# Altium footprint library WE-MAIA.PcbLib: 13 footprints
Each footprint in its own frame and in the unit in brackets; x right, y up, seen from the top. Pads: shape width x height; smd on the part's side, far side on the other; paste and mask are expansions set on the pad; w line width, h text height; cw(c..) or ccw(c..) is an arc to the next point about the centre after c.
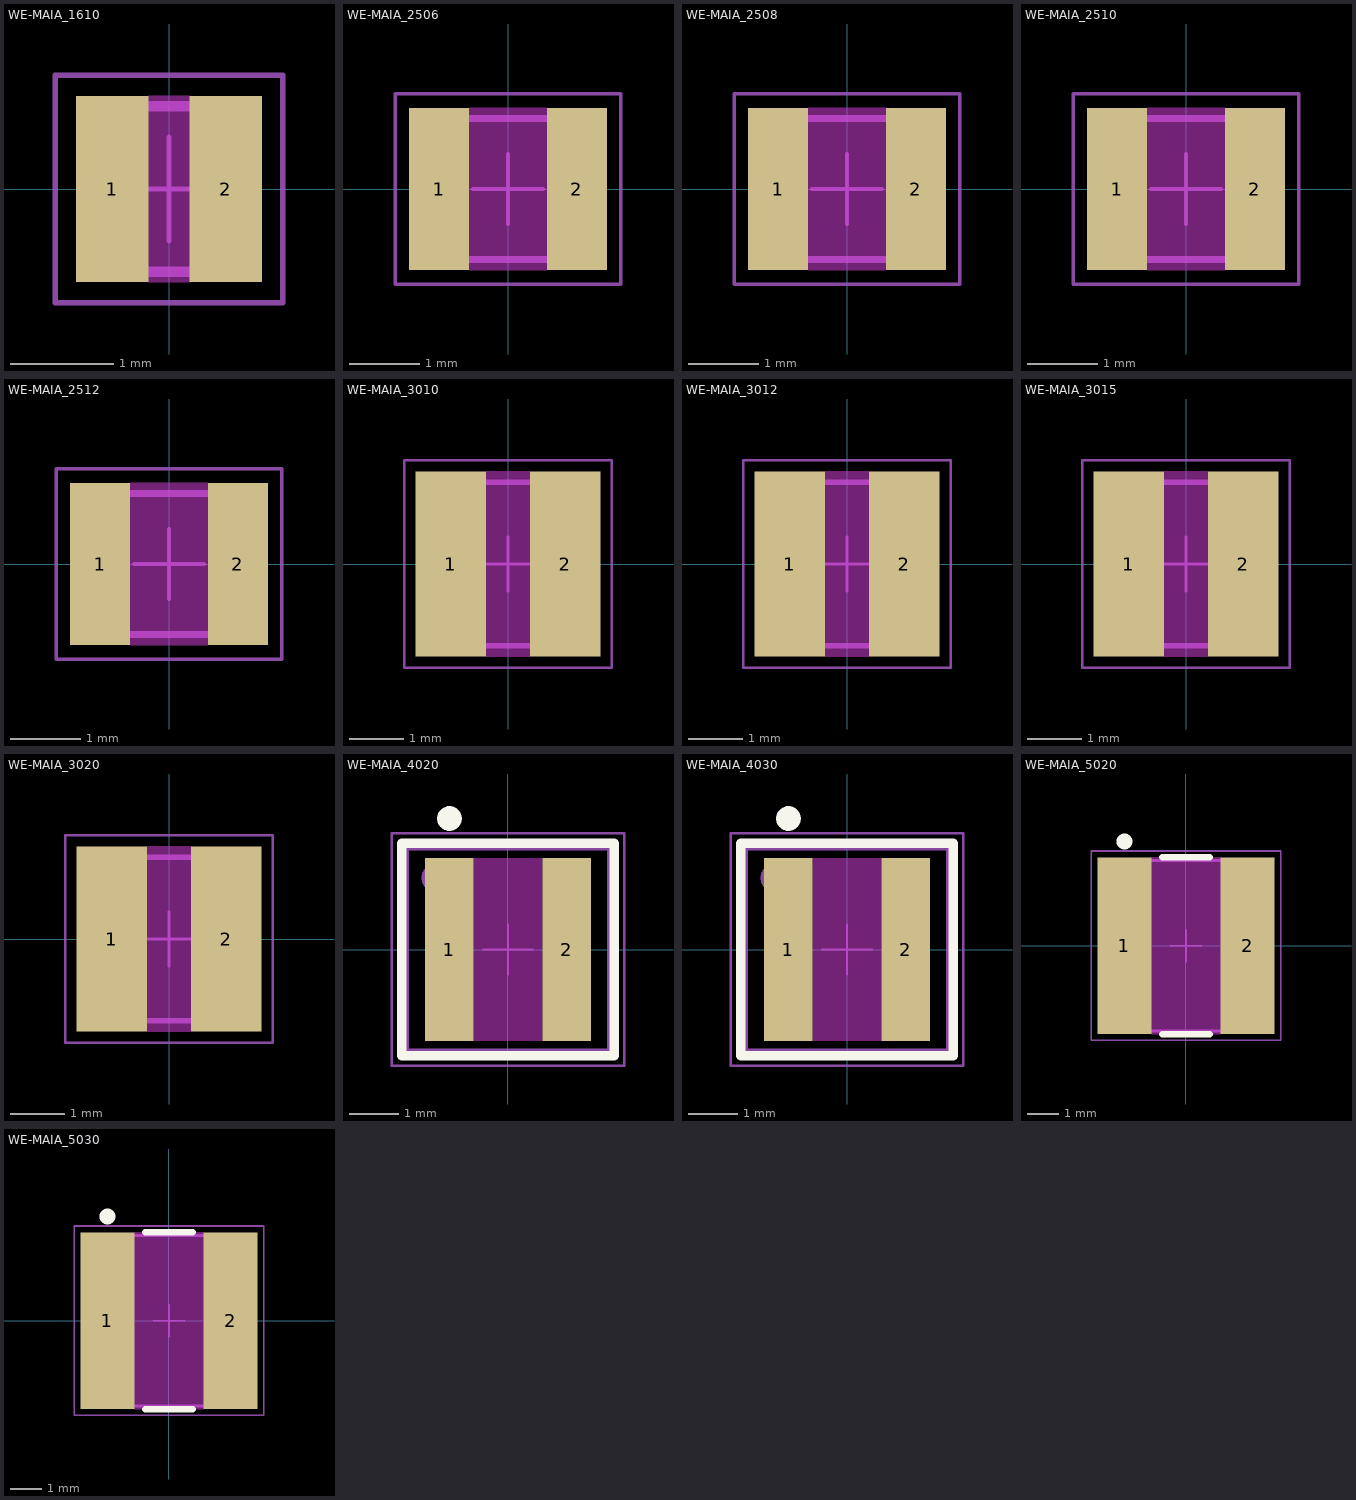
[diagram p0: the footprints below, top view; thin cyan lines are the x and y axes]

## WE-MAIA_1610 [mm] "SMT Power Inductor, 2-leads, body 1.6x1.6mm"
height 1
pads (2):
  rect 0.7x1.8 smd: 1(-0.55,0) 2(0.55,0)
Top Layer keep-out:
  region: -0.2,0.9 0.2,0.9 0.2,-0.9 -0.2,-0.9
Top Designator:
  text ".Designator" at -2.499,-0.167 h0.5
Top Component Outline:
  lines w0.1: -0.8,-0.8 -0.8,0.8 0.8,0.8 0.8,-0.8 -0.8,-0.8
Top Courtyard:
  lines w0.05: -1.1,-1.1 -1.1,1.1 1.1,1.1 1.1,-1.1 -1.1,-1.1
Top Component Center:
  lines w0.05: -0.5,0 0.5,0 ; 0,-0.5 0,0.5
3D body "WE-IndMAIA_1610.stp": height 1, standoff 0, extent -0.8,-0.8 0.8,0.8

## WE-MAIA_2506 [mm] "SMD Power Inductor, 2-leads, body 2.5x2mm"
height 0.6
pads (2):
  rect 0.85x2.3 smd: 1(-0.975,0) 2(0.975,0)
Top Layer keep-out:
  region: -0.55,1.15 0.55,1.15 0.55,-1.15 -0.55,-1.15
Top Designator:
  text ".Designator" at -3.499,-0.233 h0.7
Top Component Outline:
  lines w0.1: -1.25,-1 1.25,-1 1.25,1 -1.25,1 -1.25,-1
Top Courtyard:
  lines w0.05: -1.6,-1.35 -1.6,1.35 1.6,1.35 1.6,-1.35 -1.6,-1.35
Top Component Center:
  lines w0.05: -0.5,0 0.5,0 ; 0,-0.5 0,0.5
3D body "WE-IndMAIA_SSMC-252006-S.stp": height 0.6, standoff 0, extent -1.25,-1 1.25,1

## WE-MAIA_2508 [mm] "SMD Power Inductor, 2-leads, body 2.5x2mm"
height 0.8
pads (2):
  rect 0.85x2.3 smd: 1(-0.975,0) 2(0.975,0)
Top Layer keep-out:
  region: -0.55,1.15 0.55,1.15 0.55,-1.15 -0.55,-1.15
Top Designator:
  text ".Designator" at -3.499,-0.233 h0.7
Top Component Outline:
  lines w0.1: -1.25,-1 1.25,-1 1.25,1 -1.25,1 -1.25,-1
Top Courtyard:
  lines w0.05: -1.6,-1.35 -1.6,1.35 1.6,1.35 1.6,-1.35 -1.6,-1.35
Top Component Center:
  lines w0.05: -0.5,0 0.5,0 ; 0,-0.5 0,0.5
3D body "WE-IndMAIA_SSMC-252008-S.stp": height 0.8, standoff 0, extent -1.25,-1 1.25,1

## WE-MAIA_2510 [mm] "SMD Power Inductor, 2-leads, body 2.5x2mm"
height 1
pads (2):
  rect 0.85x2.3 smd: 1(-0.975,0) 2(0.975,0)
Top Layer keep-out:
  region: -0.55,1.15 0.55,1.15 0.55,-1.15 -0.55,-1.15
Top Designator:
  text ".Designator" at -3.499,-0.233 h0.7
Top Component Outline:
  lines w0.1: -1.25,-1 1.25,-1 1.25,1 -1.25,1 -1.25,-1
Top Courtyard:
  lines w0.05: -1.6,-1.35 -1.6,1.35 1.6,1.35 1.6,-1.35 -1.6,-1.35
Top Component Center:
  lines w0.05: -0.5,0 0.5,0 ; 0,-0.5 0,0.5
3D body "WE-IndMAIA_SSMC-252010-S.stp": height 1, standoff 0, extent -1.25,-1 1.25,1

## WE-MAIA_2512 [mm] "SMD Power Inductor, 2-leads, body 2.5x2mm"
height 1.2
pads (2):
  rect 0.85x2.3 smd: 1(-0.975,0) 2(0.975,0)
Top Layer keep-out:
  region: -0.55,1.15 0.55,1.15 0.55,-1.15 -0.55,-1.15
Top Designator:
  text ".Designator" at -3.499,-0.233 h0.7
Top Component Outline:
  lines w0.1: -1.25,-1 -1.25,1 1.25,1 1.25,-1 -1.25,-1
Top Courtyard:
  lines w0.05: -1.6,-1.35 1.6,-1.35 1.6,1.35 -1.6,1.35 -1.6,-1.35
Top Component Center:
  lines w0.05: -0.5,0 0.5,0 ; 0,-0.5 0,0.5
3D body "WE-IndMAIA_SSMC-252012-S.stp": height 1.2, standoff 0, extent -1.25,-1 1.25,1

## WE-MAIA_3010 [mm] "SMD Power Inductor, 2-leads, body 3x3mm"
height 1
pads (2):
  rect 1.3x3.4 smd: 1(-1.05,0) 2(1.05,0)
Top Layer keep-out:
  region: -0.4,1.7 0.4,1.7 0.4,-1.7 -0.4,-1.7
Top Designator:
  text ".Designator" at -4.998,-0.333 h1
Top Component Outline:
  lines w0.1: -1.5,-1.5 -1.5,1.5 1.5,1.5 1.5,-1.5 -1.5,-1.5
Top Courtyard:
  lines w0.05: -1.9,-1.9 -1.9,1.9 1.9,1.9 1.9,-1.9 -1.9,-1.9
Top Component Center:
  lines w0.05: -0.5,0 0.5,0 ; 0,-0.5 0,0.5
3D body "WE-IndMAIA_SSMC-303010-S.stp": height 1, standoff 0, extent -1.5,-1.5 1.5,1.5

## WE-MAIA_3012 [mm] "SMD Power Inductor, 2-leads, body 3x3mm"
height 1.2
pads (2):
  rect 1.3x3.4 smd: 1(-1.05,0) 2(1.05,0)
Top Layer keep-out:
  region: -0.4,1.7 0.4,1.7 0.4,-1.7 -0.4,-1.7
Top Designator:
  text ".Designator" at -4.998,-0.333 h1
Top Component Outline:
  lines w0.1: -1.5,-1.5 -1.5,1.5 1.5,1.5 1.5,-1.5 -1.5,-1.5
Top Courtyard:
  lines w0.05: -1.9,-1.9 -1.9,1.9 1.9,1.9 1.9,-1.9 -1.9,-1.9
Top Component Center:
  lines w0.05: -0.5,0 0.5,0 ; 0,-0.5 0,0.5
3D body "WE-IndMAIA_SSMC-303012-S.stp": height 1.2, standoff 0, extent -1.5,-1.5 1.5,1.5

## WE-MAIA_3015 [mm] "SMD Power Inductor, 2-leads, body 3x3mm"
height 1.5
pads (2):
  rect 1.3x3.4 smd: 1(-1.05,0) 2(1.05,0)
Top Layer keep-out:
  region: -0.4,1.7 0.4,1.7 0.4,-1.7 -0.4,-1.7
Top Designator:
  text ".Designator" at -4.998,-0.333 h1
Top Component Outline:
  lines w0.1: -1.5,-1.5 -1.5,1.5 1.5,1.5 1.5,-1.5 -1.5,-1.5
Top Courtyard:
  lines w0.05: -1.9,-1.9 1.9,-1.9 1.9,1.9 -1.9,1.9 -1.9,-1.9
Top Component Center:
  lines w0.05: -0.5,0 0.5,0 ; 0,-0.5 0,0.5
3D body "WE-MAIA_3015.stp": height 1.5, standoff 0, extent -1.5,-1.5 1.5,1.5

## WE-MAIA_3020 [mm] "SMD Power Inductor, 2-leads, body 3x3mm"
height 2
pads (2):
  rect 1.3x3.4 smd: 1(-1.05,0) 2(1.05,0)
Top Layer keep-out:
  region: -0.4,1.7 0.4,1.7 0.4,-1.7 -0.4,-1.7
Top Designator:
  text ".Designator" at -4.998,-0.333 h1
Top Component Outline:
  lines w0.1: -1.5,-1.5 -1.5,1.5 1.5,1.5 1.5,-1.5 -1.5,-1.5
Top Courtyard:
  lines w0.05: -1.9,-1.9 -1.9,1.9 1.9,1.9 1.9,-1.9 -1.9,-1.9
Top Component Center:
  lines w0.05: -0.5,0 0.5,0 ; 0,-0.5 0,0.5
3D body "WE-IndMAIA_SSMC-303020-S.stp": height 2, standoff 0, extent -1.5,-1.5 1.5,1.5

## WE-MAIA_4020 [mm] "SMD Power Inductor, 2-leads, body 4.1x4.1mm"
height 2.1
pads (2):
  rect 0.98x3.7 smd: 1(-1.185,0) 2(1.185,0)
Top Layer keep-out:
  region: -0.695,1.85 0.695,1.85 0.695,-1.85 -0.695,-1.85
Top Overlay:
  circle w0.25: c-1.185,2.65 r0.125
  lines w0.2: -2.15,-2.15 -2.15,2.15 2.15,2.15 2.15,-2.15 -2.15,-2.15
Top Designator:
  text ".Designator" at -4.998,-0.333 h1
Top Component Outline:
  circle w0.1: c-1.45,1.45 r0.25
  lines w0.1: -2.05,-2.05 -2.05,2.05 2.05,2.05 2.05,-2.05 -2.05,-2.05
Top Courtyard:
  lines w0.05: -2.35,-2.35 -2.35,2.35 2.35,2.35 2.35,-2.35 -2.35,-2.35
Top Component Center:
  lines w0.05: -0.5,0 0.5,0 ; 0,-0.5 0,0.5
3D body "WE-IndMAIA_SSMC-403020-S.stp": height 2.1, standoff 0, extent -2.05,-2.05 2.05,2.05

## WE-MAIA_4030 [mm] "SMD Power Inductor, 2-leads, body 4.1x4.1mm"
height 3.1
pads (2):
  rect 0.98x3.7 smd: 1(-1.185,0) 2(1.185,0)
Top Layer keep-out:
  region: -0.695,1.85 0.695,1.85 0.695,-1.85 -0.695,-1.85
Top Overlay:
  circle w0.25: c-1.185,2.65 r0.125
  lines w0.2: -2.15,-2.15 -2.15,2.15 2.15,2.15 2.15,-2.15 -2.15,-2.15
Top Designator:
  text ".Designator" at -4.998,-0.333 h1
Top Component Outline:
  circle w0.1: c-1.45,1.45 r0.25
  lines w0.1: -2.05,-2.05 -2.05,2.05 2.05,2.05 2.05,-2.05 -2.05,-2.05
Top Courtyard:
  lines w0.05: -2.35,-2.35 -2.35,2.35 2.35,2.35 2.35,-2.35 -2.35,-2.35
Top Component Center:
  lines w0.05: -0.5,0 0.5,0 ; 0,-0.5 0,0.5
3D body "IndMAIA_4030.stp": height 3.1, standoff 0, extent -2.05,-2.05 2.05,2.05

## WE-MAIA_5020 [mm] "SMT Power Inductor, 2-leads, body 5.4x5.4mm"
height 2.1
pads (2):
  rect 1.7x5.6 smd: 1(-1.95,0) 2(1.95,0)
Top Layer keep-out:
  region: -1.1,2.8 1.1,2.8 1.1,-2.8 -1.1,-2.8
Top Overlay:
  circle w0.25: c-1.95,3.3 r0.125
  lines w0.2: -0.75,-2.8 0.75,-2.8 ; -0.75,2.8 0.75,2.8
Top Designator:
  text ".Designator" at -5.998,-0.4 h1.2
Top Component Outline:
  circle w0.1: c-1.9,1.9 r0.3
  lines w0.1: -2.7,-2.7 -2.7,2.7 2.7,2.7 2.7,-2.7 -2.7,-2.7
Top Courtyard:
  lines w0.05: -3,-3 -3,3 3,3 3,-3 -3,-3
Top Component Center:
  lines w0.05: -0.5,0 0.5,0 ; 0,-0.5 0,0.5
3D body "IndMAIA_5020.stp": height 2.1, standoff 0, extent -2.7,-2.7 2.7,2.7

## WE-MAIA_5030 [mm] "SMT Power Inductor, 2-leads, body 5.4x5.4mm"
height 3.1
pads (2):
  rect 1.7x5.6 smd: 1(-1.95,0) 2(1.95,0)
Top Layer keep-out:
  region: -1.1,2.8 1.1,2.8 1.1,-2.8 -1.1,-2.8
Top Overlay:
  circle w0.25: c-1.95,3.3 r0.125
  lines w0.2: -0.75,-2.8 0.75,-2.8 ; -0.75,2.8 0.75,2.8
Top Designator:
  text ".Designator" at -5.998,-0.4 h1.2
Top Component Outline:
  circle w0.1: c-1.9,1.9 r0.3
  lines w0.1: -2.7,-2.7 -2.7,2.7 2.7,2.7 2.7,-2.7 -2.7,-2.7
Top Courtyard:
  lines w0.05: -3,-3 -3,3 3,3 3,-3 -3,-3
Top Component Center:
  lines w0.05: -0.5,0 0.5,0 ; 0,-0.5 0,0.5
3D body "78438367xxx_5030.stp": height 3.1, standoff 0, extent -2.7,-2.7 2.7,2.7